# EAGLE library part DSC1123?* (library kicker)
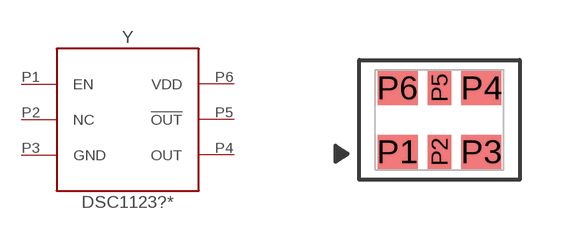
[diagram p2: symbol with the pads of DSC11X3; footprint DSC11X3]

Designator prefix Y

## DSC1123C, DSC1123CI2-020.0000 (MF: Microchip Technology; MOUSER: 579-DSC1123CI2020; MPN: DSC1123CI2-020.0000)  [DSC11X3]
P1  EN
P2  NC
P3  GND  pwr
P4  OUT  out
P5  !OUT  out
P6  VDD  pwr

## Footprint DSC11X3 (pad centres in mm)
smd 1 x 0.85: P1 -1.05,-0.8; P3 1.05,-0.8; P4 1.05,0.8; P6 -1.05,0.8
smd 0.6 x 0.85: P2 0,-0.8; P5 0,0.8